# EAGLE library part 30.22.9 (library omcRelais)
Finder Series 30 - Dual-In-Line-Relais 1,25 A Power: 125VA Voltage: 125V DC-Coil: 30.22.7: 200 mW 30.22.9: 400 mW AgNi-Contacts Datasheet Finder <https://www.finder-relais.net/de/finder-relais-serie-30.pdff> Reichelt <https://cdn-reichelt.de/documents/datenblatt/C300/FIN30%23FIN.pdf>
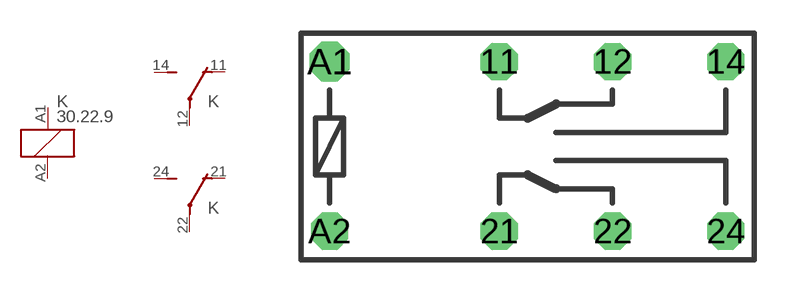
[diagram p2: symbol with the pads of THT_7M62M_7M62M_5M08M; footprint THT_7M62M_7M62M_5M08M]

Designator prefix K; gates G$1=K G$2=U G$3=U

## 30.22.9-12VDC (DIST#REICHELT#: FIN 30.22.9 12V; VALUE: 30.22 12VDC; VENDOR#: Finder,30.22.9.012.0000), 30.22.9-24VDC (DIST#REICHELT#: FIN 30.22.9 24V; VALUE: 30.22 24VDC; VENDOR#: Finder,30.22.9.024.0000)  [THT_7M62M_7M62M_5M08M]
11  G$2:O  pas
12  G$2:P  pas
14  G$2:S  pas
21  G$3:O  pas
22  G$3:P  pas
24  G$3:S  pas
A1  G$1:1  pas
A2  G$1:2  pas

## Footprint THT_7M62M_7M62M_5M08M (pad centres in mm)
THT Relay Mechanical: coil contact-to-contact distance: 7.62mm switch-over-to-coil contact distance: 7.62mm row switch-over contact-to-contact distance: 7.62mm Electrical: Terminal: 8 switch-over contact: 2 Used by: Finder: Serie 30
drill 0.8 pad 1.676 octagon: 11 8.89,8.89; 12 13.97,8.89; 14 19.05,8.89; 21 8.89,1.27; 22 13.97,1.27; 24 19.05,1.27; A2 1.27,1.27
drill 0.8 pad 1.778 octagon: A1 1.27,8.89